# Altium footprint library DB-Connectors.PcbLib: 4 footprints
Each footprint in its own frame and in the unit in brackets; x right, y up, seen from the top. Pads: shape width x height; smd on the part's side, far side on the other; paste and mask are expansions set on the pad; w line width, h text height; cw(c..) or ccw(c..) is an arc to the next point about the centre after c.
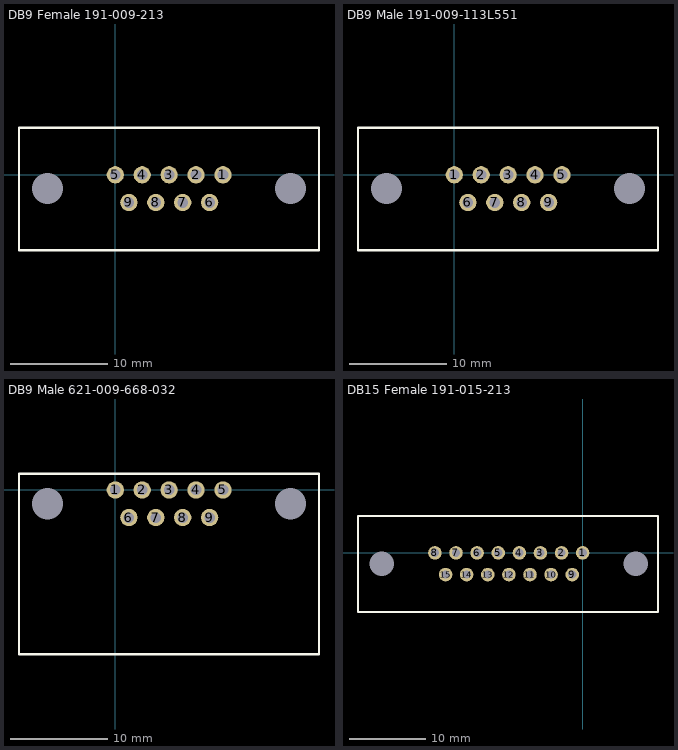
[diagram p0: the footprints below, top view; thin cyan lines are the x and y axes]

## DB9 Female 191-009-213 [mil] "191-009-213"
pads (11):
  round 70 hole 43: 1(436,0) 2(327,0) 3(218,0) 4(109,0) 5(0,0) 6(382,-112) 7(273,-112) 8(164,-112) 9(55,-112)
  round 0 hole 126: 2(-274,-56) 2(710,-56)
Top Overlay:
  lines w10: -390,-305 825,-305 825,190 -390,190 -390,-305
3D body "191-009-213.STEP": height 482, standoff -162, extent -390.5,-305.99 825.5,190

## DB9 Male 191-009-113L551 [mil] "191-009-113L551"
pads (11):
  round 70 hole 43: 1(0,0) 2(109,0) 3(218,0) 4(327,0) 5(436,0) 6(55,-112) 7(164,-112) 8(273,-112) 9(382,-112)
  round 0 hole 126: 2(-274,-56) 2(710,-56)
Top Overlay:
  lines w10: -390,-305 825,-305 825,190 -390,190 -390,-305
3D body "191-009-113.STEP": height 480, standoff -162, extent -391,-305 825,191

## DB9 Male 621-009-668-032 [mil] "621-009-668-032 EDAC"
pads (11):
  round 70 hole 43: 1(0,0) 2(109,0) 3(218,0) 4(327,0) 5(436,0) 6(55,-112) 7(164,-112) 8(273,-112) 9(382,-112)
  round 0 hole 126: 2(-274,-56) 2(710,-56)
Top Overlay:
  lines w10: -390,-665 825,-665 825,65 -390,65 -390,-665
3D body "621-009-668-032 - EDAC D-Sub Connector.STEP": height 497.05, standoff -142.72, extent -390.14,-661.96 826,62.44

## DB15 Female 191-015-213 [mil] "191-015-213"
pads (17):
  round 70 hole 43: 1(0,0) 2(-109,0) 3(-218,0) 4(-327,0) 5(-436,0) 6(-545,0) 7(-654,0) 8(-763,0) 9(-54,-112) 10(-163,-112) 11(-272,-112) 12(-381,-112) 13(-490,-112) 14(-599,-112) 15(-708,-112)
  round 0 hole 126: 2(-1037,-56) 2(274,-56)
Top Overlay:
  lines w10: -1160,-305 -1160,190 389,190 389,-305 -1160,-305
3D body "191-015-223.STEP": height 482, standoff -147, extent -1158,-305.5 389,190.5